# Altium schematic symbol library Buzzer.SchLib: 1 symbol
Pins are listed as number, name and electrical type; pins without a type are passive.

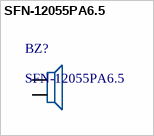
[diagram p0: symbol SFN-12055PA6.5]

## SFN-12055PA6.5
designator BZ?
12.5mm压电无源蜂鸣器; Type: SFN-12055PA6.5
footprint SFN-12055PA6.5
footprint RB7.6-15 (Polarized Capacitor (Radial); 2 Leads)
pins: 1, 2